# EAGLE library part DM3CS-SF (library robotter_connector)
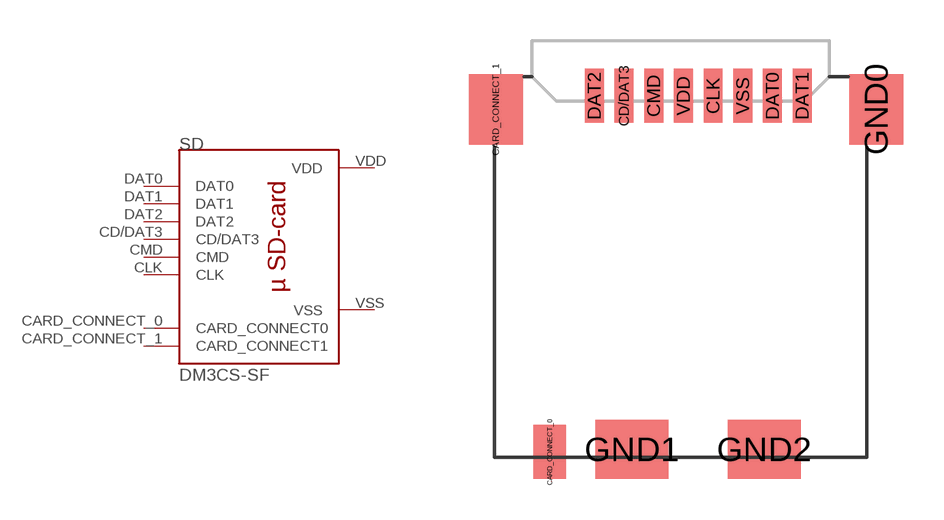
[diagram p15: symbol with the pads of DM3CS-SF; footprint DM3CS-SF]

Designator prefix SD

## DM3CS-SF (MOUSER: 798-DM3CSSF; RS: 772-6787; VALUE: DM3CS-SF)  [DM3CS-SF]
CARD_CONNECT_0  CARD_CONNECT0
CARD_CONNECT_1  CARD_CONNECT1
CD/DAT3  CD/DAT3
CLK  CLK
CMD  CMD
DAT0  DAT0
DAT1  DAT1
DAT2  DAT2
VDD  VDD
VSS  VSS

## Footprint DM3CS-SF (pad centres in mm)
smd 1.2 x 2: CARD_CONNECT_0 -4.85,0.2
smd 2 x 2.6: CARD_CONNECT_1 -6.85,12.9; GND0 7.25,12.9
smd 0.7 x 2: CD/DAT3 -2.1,13.4; CLK 1.2,13.4; CMD -1,13.4; DAT0 3.4,13.4; DAT1 4.5,13.4; DAT2 -3.2,13.4; VDD 0.1,13.4; VSS 2.3,13.4
smd 2.7 x 2.2: GND1 -1.8,0.3; GND2 3.1,0.3